# Altium footprint library AD格式.PcbLib: 26 footprints (part 2 of 2)
Each footprint in its own frame and in the unit in brackets; x right, y up, seen from the top. Pads: shape width x height; smd on the part's side, far side on the other; paste and mask are expansions set on the pad; w line width, h text height; cw(c..) or ccw(c..) is an arc to the next point about the centre after c.
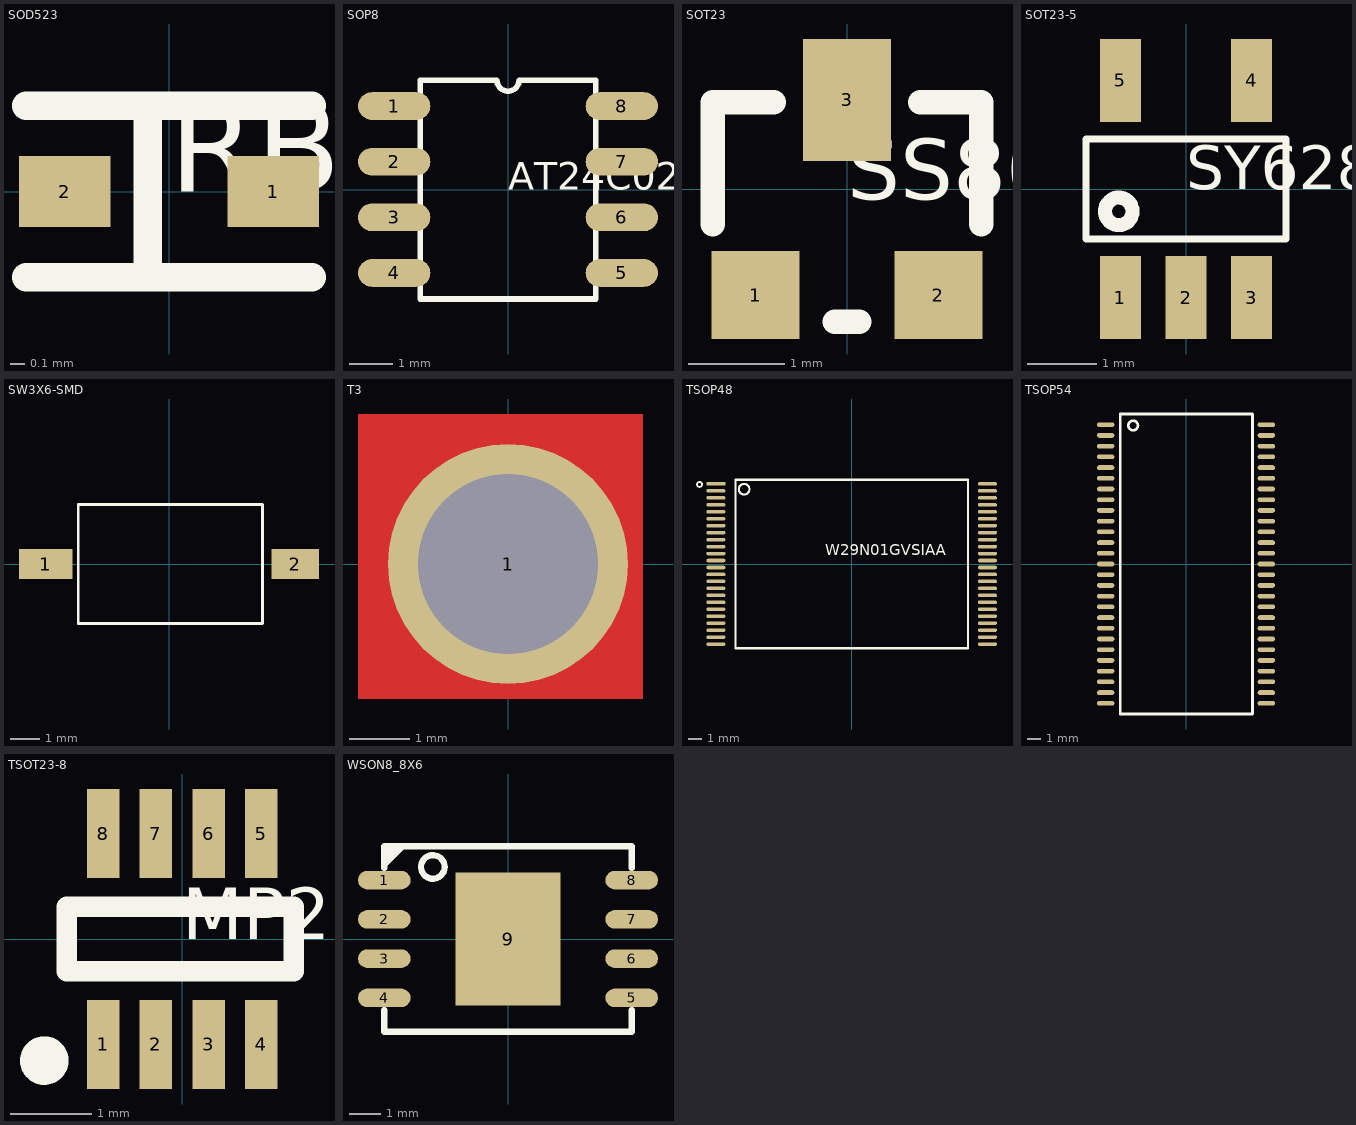
[diagram p1: the footprints below, top view; thin cyan lines are the x and y axes]

## SOD523 [mm] "SOD523"
pads (2):
  rect 0.64x0.5 smd: 1(0.73,0) 2(-0.73,0)
Top Overlay:
  lines w0.2: -1,-0.6 1,-0.6 ; -1,0.6 1,0.6 ; -0.15,-0.575 -0.15,0.6
  text "RB521S30" at 0,0 h0.64
Mechanical 9:
  text "1" at 0.73,0.254 h0.64
  text "2" at -0.73,0.254 h0.64

## SOP8 [mil] "SOP8"
pads (8):
  oval 65x25 smd: 1(-102.36,75) 2(-102.36,25) 3(-102.36,-25) 4(-102.36,-75) 5(102.36,-75) 6(102.36,-25) 7(102.36,25) 8(102.36,75)
Top Overlay:
  lines w5: -78.74,-98.43 78.74,-98.43 78.74,98.43 10,98.43 cw(c0,98.43) -10,98.43 -78.74,98.43 -78.74,-98.43
  text "AT24C02" at 0,0 h25
Mechanical 9:
  text "5" at 92.36,-75 h25
  text "6" at 92.36,-25 h25
  text "7" at 92.36,25 h25
  text "1" at -112.36,75 h25
  text "2" at -112.36,25 h25
  text "3" at -112.36,-25 h25
  text "4" at -112.36,-75 h25
  text "8" at 92.36,75 h25

## SOT23 [mil] "SOT23"
pads (3):
  rect 36x36 smd: 1(-37.5,-43.5) 2(37.5,-43.5)
  rect 36x50 smd: 3(0,36.5)
Top Overlay:
  lines w10: -55,-14.5 -55,35.5 -30,35.5 ; -5,-54.5 5,-54.5 ; 30,35.5 55,35.5 55,-14.5
  text "SS8050" at 0,-4.5 h25
Mechanical 9:
  text "3" at -10,36.5 h25
  text "1" at -47.5,-43.5 h25
  text "2" at 27.5,-43.5 h25

## SOT23-5 [mm] "SOT23-5"
pads (5):
  rect 0.6x1.2 smd: 1(-0.95,-1.575) 2(0,-1.575) 3(0.95,-1.575) 4(0.95,1.575) 5(-0.95,1.575)
Top Overlay:
  circle w0.203: c-0.975,-0.325 r0.2
  lines w0.102: -1.45,-0.725 -1.45,0.475 -1.45,0.725 1.45,0.725 1.45,0.475 1.45,-0.725 -1.45,-0.725
  text "SY6280AAC" at 0,0 h0.64
Mechanical 9:
  text "3" at 0.95,-1.321 h0.64
  text "4" at 0.95,1.829 h0.64
  text "1" at -0.95,-1.321 h0.64
  text "2" at 0,-1.321 h0.64
  text "5" at -0.95,1.829 h0.64

## SW3X6-SMD [mm] "SW3X6-SMD"
pads (2):
  rect 1.8x1 smd: 1(-4.141,0)
  rect 1.6x1 smd: 2(4.241,0)
Top Overlay:
  lines w0.1: -3.05,-2 3.15,-2 3.15,2 -3.05,2 -3.05,-2
Mechanical 9:
  text "2" at 3.987,0 h0.64
  text "1" at -4.395,0 h0.64

## T3 [mm] "T3"
pads (1):
  round 4 hole 3: 1(0,0)
Top Layer:
  region: -2.5,2.5 -2.5,-2.246 -2.453,-2.246 2.246,-2.246 2.246,2.499 2.246,2.5
Bottom Layer:
  region: -2.5,-2.246 2.246,-2.246 2.246,2.5 -2.5,2.5
Top Solder:
  pour cut-out: 2.5,-2.243 2.5,2.5 2.246,2.5 -2.5,2.5 -2.5,-2.246 -2.5,-2.5 2.246,-2.5 2.5,-2.5
Bottom Solder:
  pour cut-out: -2.5,-2.5 2.5,-2.5 2.5,2.5 -2.5,2.5
Mechanical 9:
  text "1" at 0,0.254 h0.64

## TSOP48 [mil] "TSOP48"
pads (48):
  rect 54x10 smd: 1(-383.86,226.38)
  oval 54x10 smd: 2(-383.86,206.69) 3(-383.86,187.01) 4(-383.86,167.32) 5(-383.86,147.64) 6(-383.86,127.95) 7(-383.86,108.27) 8(-383.86,88.58) 9(-383.86,68.9) 10(-383.86,49.21) 11(-383.86,29.53) 12(-383.86,9.84) 13(-383.86,-9.84) 14(-383.86,-29.53) 15(-383.86,-49.21) 16(-383.86,-68.9) 17(-383.86,-88.58) 18(-383.86,-108.27) 19(-383.86,-127.95) 20(-383.86,-147.64) 21(-383.86,-167.32) 22(-383.86,-187.01) 23(-383.86,-206.69) 24(-383.86,-226.38) 25(383.86,-226.38) 26(383.86,-206.69) 27(383.86,-187.01) 28(383.86,-167.32) 29(383.86,-147.64) 30(383.86,-127.95) 31(383.86,-108.27) 32(383.86,-88.58) 33(383.86,-68.9) 34(383.86,-49.21) 35(383.86,-29.53) 36(383.86,-9.84) 37(383.86,9.84) 38(383.86,29.53) 39(383.86,49.21) 40(383.86,68.9) 41(383.86,88.58) 42(383.86,108.27) 43(383.86,127.95) 44(383.86,147.64) 45(383.86,167.32) 46(383.86,187.01) 47(383.86,206.69) 48(383.86,226.38)
Top Overlay:
  circle w5.98: c-303.86,211.38 r15
  circle w5: c-430,225 r7.09
  lines w5.98: -328.5,-238.19 328.74,-238.19 328.74,238.19 -328.5,238.19 -328.5,-238.19
  text "W29N01GVSIAA" at -75,25 h30.98
Mechanical 9:
  text "7" at -383.86,101.18 h7.87
  text "44" at 383.86,137.4 h7.87
  text "43" at 383.86,117.72 h7.87
  text "42" at 383.86,98.03 h7.87
  text "41" at 383.86,78.35 h7.87
  text "32" at 383.86,-98.82 h7.87
  text "31" at 383.86,-118.5 h7.87
  text "30" at 383.86,-138.19 h7.87
  text "29" at 383.86,-157.87 h7.87
  text "9" at -383.86,61.81 h7.87
  text "17" at -383.86,-98.82 h7.87
  text "16" at -383.86,-79.13 h7.87
  text "8" at -383.86,81.5 h7.87
  text "18" at -383.86,-118.5 h7.87
  text "19" at -383.86,-138.19 h7.87
  text "13" at -383.86,-20.08 h7.87
  text "36" at 383.86,-20.08 h7.87
  text "37" at 383.86,-0.39 h7.87
  text "12" at -383.86,-0.39 h7.87
  text "1" at -383.86,219.29 h7.87
  text "2" at -383.86,199.61 h7.87
  text "3" at -383.86,179.92 h7.87
  text "4" at -383.86,160.24 h7.87
  text "5" at -383.86,140.55 h7.87
  text "6" at -383.86,120.87 h7.87
  text "10" at -383.86,38.98 h7.87
  text "11" at -383.86,19.29 h7.87
  text "14" at -383.86,-39.76 h7.87
  text "15" at -383.86,-59.45 h7.87
  text "20" at -383.86,-157.87 h7.87
  text "21" at -383.86,-177.56 h7.87
  text "22" at -383.86,-197.24 h7.87
  text "23" at -383.86,-216.93 h7.87
  text "24" at -383.86,-236.61 h7.87
  text "25" at 383.86,-236.61 h7.87
  text "26" at 383.86,-216.93 h7.87
  text "27" at 383.86,-197.24 h7.87
  text "28" at 383.86,-177.56 h7.87
  text "33" at 383.86,-79.13 h7.87
  text "34" at 383.86,-59.45 h7.87
  text "35" at 383.86,-39.76 h7.87
  text "38" at 383.86,19.29 h7.87
  text "39" at 383.86,38.98 h7.87
  text "40" at 383.86,58.66 h7.87
  text "45" at 383.86,157.09 h7.87
  text "46" at 383.86,176.77 h7.87
  text "47" at 383.86,196.46 h7.87
  text "48" at 383.86,216.14 h7.87

## TSOP54 [mm] "TSOP54"
pads (54):
  oval 1.3x0.35 smd: 1(-6,10.4) 2(-6,9.6) 3(-6,8.8) 4(-6,8) 5(-6,7.2) 6(-6,6.4) 7(-6,5.6) 8(-6,4.8) 9(-6,4) 10(-6,3.2) 11(-6,2.4) 12(-6,1.6) 13(-6,0.8) 14(-6,0) 15(-6,-0.8) 16(-6,-1.6) 17(-6,-2.4) 18(-6,-3.2) 19(-6,-4) 20(-6,-4.8) 21(-6,-5.6) 22(-6,-6.4) 23(-6,-7.2) 24(-6,-8) 25(-6,-8.8) 26(-6,-9.6) 27(-6,-10.4) 28(6,-10.4) 29(6,-9.6) 30(6,-8.8) 31(6,-8) 32(6,-7.2) 33(6,-6.4) 34(6,-5.6) 35(6,-4.8) 36(6,-4) 37(6,-3.2) 38(6,-2.4) 39(6,-1.6) 40(6,-0.8) 41(6,0) 42(6,0.8) 43(6,1.6) 44(6,2.4) 45(6,3.2) 46(6,4) 47(6,4.8) 48(6,5.6) 49(6,6.4) 50(6,7.2) 51(6,8) 52(6,8.8) 53(6,9.6) 54(6,10.4)
Top Overlay:
  circle w0.2: c-3.95,10.34 r0.361
  lines w0.2: -4.9,-11.2 -4.9,11.2 ; -4.9,-11.2 4.96,-11.2 ; -4.9,-11.2 -4.9,11.2 ; -4.9,-11.2 4.96,-11.2 ; -4.9,11.2 4.96,11.2 ; -4.9,11.2 4.96,11.2 ; 4.96,-11.2 4.96,11.2 ; 4.96,-11.2 4.96,11.2
Mechanical 9:
  text "38" at 6,-2.908 h0.64
  text "16" at -6,-2.108 h0.64
  text "18" at -6,-3.708 h0.64
  text "39" at 6,-2.108 h0.64
  text "15" at -6,-1.308 h0.64
  text "44" at 6,1.892 h0.64
  text "42" at 6,0.292 h0.64
  text "13" at -6,0.292 h0.64
  text "11" at -6,1.892 h0.64
  text "10" at -6,2.692 h0.64
  text "8" at -6,4.546 h0.64
  text "7" at -6,5.346 h0.64
  text "5" at -6,6.946 h0.64
  text "53" at 6,9.092 h0.64
  text "51" at 6,7.492 h0.64
  text "50" at 6,6.692 h0.64
  text "48" at 6,5.092 h0.64
  text "47" at 6,4.292 h0.64
  text "45" at 6,2.692 h0.64
  text "4" at -6,7.746 h0.64
  text "2" at -6,9.346 h0.64
  text "19" at -6,-4.508 h0.64
  text "37" at 6,-3.708 h0.64
  text "17" at -6,-2.908 h0.64
  text "21" at -6,-6.108 h0.64
  text "20" at -6,-5.308 h0.64
  text "34" at 6,-6.108 h0.64
  text "33" at 6,-6.908 h0.64
  text "32" at 6,-7.708 h0.64
  text "31" at 6,-8.508 h0.64
  text "30" at 6,-9.308 h0.64
  text "29" at 6,-10.108 h0.64
  text "26" at -6,-10.108 h0.64
  text "25" at -6,-9.308 h0.64
  text "36" at 6,-4.508 h0.64
  text "35" at 6,-5.308 h0.64
  text "22" at -6,-6.908 h0.64
  text "24" at -6,-8.508 h0.64
  text "23" at -6,-7.708 h0.64
  text "49" at 6,5.892 h0.64
  text "43" at 6,1.092 h0.64
  text "1" at -6,10.146 h0.64
  text "27" at -6,-10.908 h0.64
  text "14" at -6,-0.508 h0.64
  text "9" at -6,3.746 h0.64
  text "3" at -6,8.546 h0.64
  text "28" at 6,-10.908 h0.64
  text "41" at 6,-0.508 h0.64
  text "46" at 6,3.492 h0.64
  text "52" at 6,8.292 h0.64
  text "12" at -6,1.092 h0.64
  text "6" at -6,6.146 h0.64
  text "54" at 6,9.892 h0.64
  text "40" at 6,-1.308 h0.64

## TSOT23-8 [mm] "TSOT23-8"
pads (8):
  rect 0.4x1.1 smd: 1(-0.975,-1.3) 2(-0.325,-1.3) 3(0.325,-1.3) 4(0.975,-1.3) 5(0.975,1.3) 6(0.325,1.3) 7(-0.325,1.3) 8(-0.975,1.3)
Top Overlay:
  circle w0.3: c-1.7,-1.5 r0.15
  lines w0.254: -1.425,-0.4 -1.425,0.4 1.375,0.4 1.375,-0.4 -1.425,-0.4
  text "MP2144GJ" at 0,0 h0.64
Mechanical 9:
  text "2" at -0.071,-1.3 h0.64
  text "3" at 0.579,-1.3 h0.64
  text "7" at -0.071,1.3 h0.64
  text "8" at -0.721,1.3 h0.64
  text "4" at 1.229,-1.3 h0.64
  text "6" at 0.579,1.3 h0.64
  text "1" at -0.721,-1.3 h0.64
  text "5" at 1.229,1.3 h0.64

## WSON8_8X6 [mm] "WSON8_8X6"
pads (9):
  oval 1.7x0.6 smd: 1(-4,1.905) 2(-4,0.635) 3(-4,-0.635) 4(-4,-1.905) 5(4,-1.905) 6(4,-0.635) 7(4,0.635) 8(4,1.905)
  rect 3.4x4.3 smd: 9(0,0)
Top Overlay:
  circle w0.203: c-2.43,2.33 r0.381
  lines w0.2: -4,-2.3 -4,-3 4,-3 4,-2.3 ; -4,2.3 -4,3 4,3 4,2.3 ; -4,2.4 -3.4,3 ; -4,2.6 -3.6,3 ; -4,2.8 -3.8,3
Top Paste:
  pour cut-out: -1.3,1.3 -0.3,1.3 -0.3,0.2 -1.3,0.2
  pour cut-out: -1.3,-0.2 -0.3,-0.2 -0.3,-1.3 -1.3,-1.3
  pour cut-out: 0.3,-0.2 1.3,-0.2 1.3,-1.3 0.3,-1.3
  pour cut-out: 0.3,1.3 1.3,1.3 1.3,0.2 0.3,0.2
Mechanical 9:
  text "4" at -4.254,-1.905 h0.64
  text "1" at -4.254,1.905 h0.64
  text "7" at 3.746,0.635 h0.64
  text "3" at -4.254,-0.635 h0.64
  text "2" at -4.254,0.635 h0.64
  text "5" at 3.746,-1.905 h0.64
  text "6" at 3.746,-0.635 h0.64
  text "8" at 3.746,1.905 h0.64
  text "9" at -0.254,0 h0.64